# Altium schematic symbol library Active.SchLib: 42 symbols
Pins are listed as number, name and electrical type; pins without a type are passive.

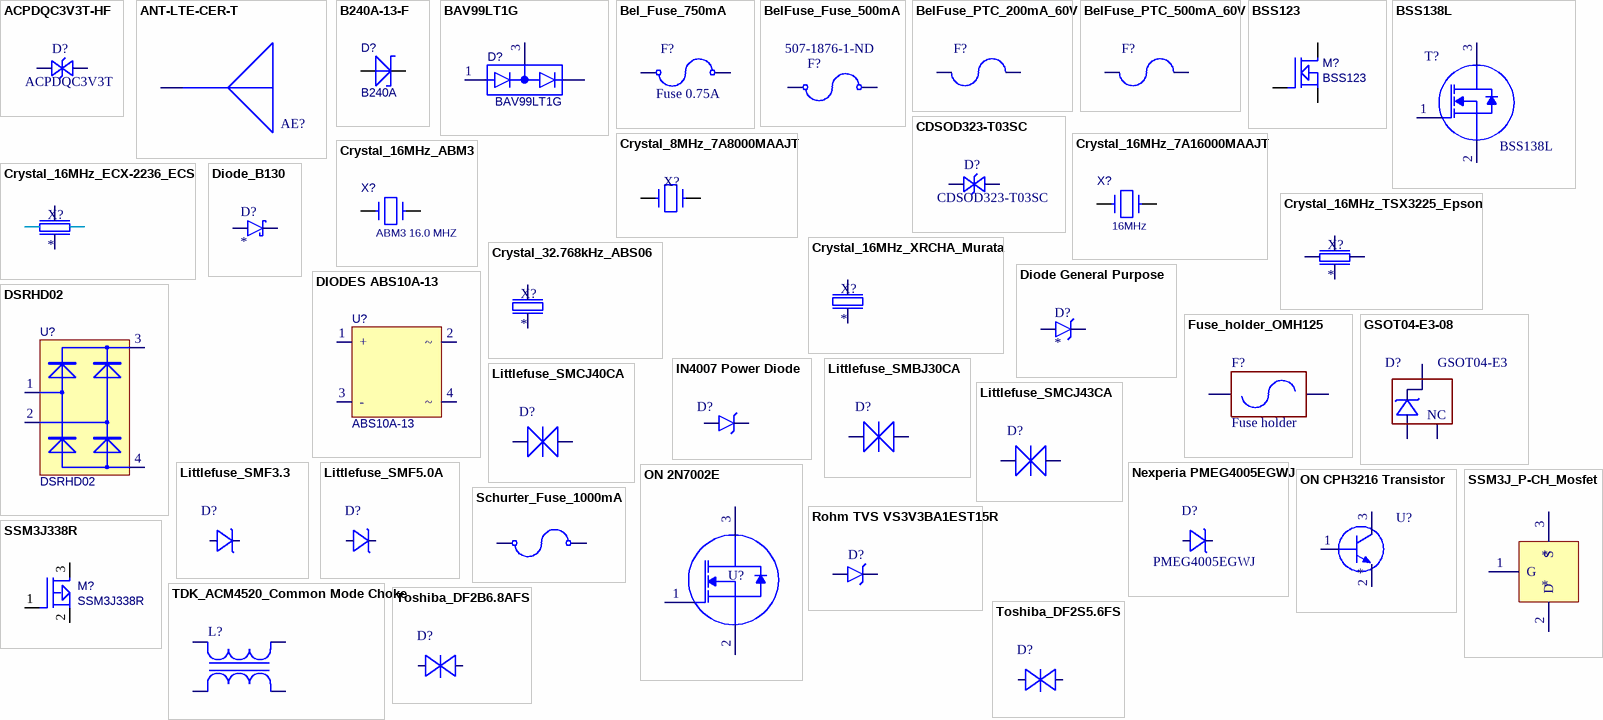
[diagram p0: symbols ACPDQC3V3T-HF to Toshiba_DF2S5.6FS]

## ACPDQC3V3T-HF
designator D?, comment ACPDQC3V3T
DIODE TVS 3.3VWM 9.8VC 16A SOD-923F 0402C; Manufacturer: Comchip; Manufacturer Part Number: ACPDQC3V3T-HF; TZOA PN: 225-00004; Type: Zener; Bidirectional Channels: 1; Voltage - Reverse Standoff (Typ): 3.3V (Max); Voltage - Breakdown (Min): 3.6V; Voltage - Clamping (Max) @ Ipp: 9.8V; Current - Peak Pulse (10/1000µs): 16A (8/20µs); Power Line Protection: No; Capacitance @ Frequency: 20pF @ 1MHz; Supplier 1: Digi-Key; Stock 1: 37772; Pricing 1: 1=0.43, 10=0.311, 25=0.2424, 100=0.1834, 250=0.1298, 500=0.1038, 1000=0.0796, 2500=0.0692 (USD); Category: Circuit Protection; Family: TVS - Diodes; Series: Automotive, AEC-Q101; Packaging: Cut Tape (CT); Unidirectional Channels: -; Power - Peak Pulse: -; Applications: Automotive; Operating Temperature: -; Mounting Type: Surface Mount; Package / Case: 0402 (1005 Metric); Supplier Device Package: 0402C/SOD-923F; Supplier Part Number 1: 641-1635-1-ND
footprint TVS Diode 0402 bidirectional
pins: 1, 2

## ANT-LTE-CER-T
designator AE?  (value not drawn)
NB-IOT / CATM1 Chip Antenna; Manufacturer: Linx; Manufacturer Part Number: ANT-LTE-CER-T; Supplier 1: Digi-Key; Stock 1: 8711; Pricing 1: 1=2.79 (USD); Supplier Part Number 1: ANT-LTE-CER-TDKR-ND
footprint ANT-LTE-CER-T
pins: 1

## B240A-13-F
designator D?, comment B240A
Diode, Schottky, 2A, 40V, SMA; Manufacturer: Diodes; Manufacturer Part Number: B240A-13-F; TZOA PN: 225-00001; Vf - Forward Voltage: 0.5 V; Ifsm - Forward Surge Current: 50 A; Configuration: Single; Ir - Reverse Current: 500 uA; Brand: Diodes Incorporated; Type: Schottky Barrier Rectifier; Unit Weight: 0.002258 oz; Supplier 1: Digi-Key; Stock 1: 299823; Pricing 1: 1=0.5, 10=0.38, 100=0.2368, 500=0.162, 1000=0.1246 (USD); Product Category: Schottky Diodes & Rectifiers; RoHS: True; Product: Schottky Diodes; Mounting Style: SMD/SMT; Package / Case: SMA; If - Forward Current: 2 A; Vrrm - Repetitive Reverse Voltage: 40 V; Technology: Si; Maximum Operating Temperature: + 150 C; Minimum Operating Temperature: - 65 C; Series: B240; Packaging: Reel; Height: 2.1 mm; Length: 4.6 mm; Operating Temperature Range: - 65 C to + 150 C; Factory Pack Quantity: 5000; Termination Style: SMD/SMT; Width: 2.92 mm; ComponentLink1URL: https://datasheet.ciiva.com/913/ds13004-913200.pdf; ComponentLink1Description: https://datasheet.ciiva.com/913/ds13004-913200.pdf; ComponentLink2URL: https://datasheet.ciiva.com/8300/ds13004-8300534.pdf; ComponentLink2Description: https://datasheet.ciiva.com/8300/ds13004-8300534.pdf; ComponentLink3URL: https://datasheet.ciiva.com/34302/1538785-34302358.pdf; ComponentLink3Description: https://datasheet.ciiva.com/34302/1538785-34302358.pdf; Supplier Part Number 1: B240A-FDICT-ND
footprint SMA (Surface Mount Plastic Rectifier)
pins: 1, 2

## BAV99LT1G
designator D?
DIODE ARRAY Pair Series 215 mA SOT23-3; Manufacturer: ON Semiconductor; TZOA PN: 225-00008; Diode Type: Small Signal; Forward Current If(AV): 215mA; Repetitive Reverse Voltage Vrrm Max: 70V; Forward Voltage VF Max: 1V; Reverse Recovery Time trr Max: 6ns; Forward Surge Current Ifsm Max: 500mA; Diode Case Style: SOT-23; No. of Pins: 3; SVHC: No SVHC (19-Dec-2012); Application Code: High Speed; Current If @ Vf: 50mA; Diode Configuration: Dual; External Depth: 2.5mm; External Length / Height: 1.12mm; External Width: 3.05mm; Junction Temperature Tj Max: 150°C; SMD Marking: A7; Supplier 1: Digi-Key; Manufacturer Part Number: BAV99LT1G; Stock 1: 554818; Pricing 1: 1=0.13, 10=0.118, 100=0.064, 500=0.0394, 1000=0.0269 (USD); Current Ifsm: 500mA; Forward Current If Max: 50mA; Forward Voltage: 1V; Package / Case: SOT-23; ComponentLink1URL: https://datasheet.ciiva.com/1242/1708240-1242822.pdf; ComponentLink1Description: https://datasheet.ciiva.com/1242/1708240-1242822.pdf; ComponentLink2URL: https://datasheet.ciiva.com/41646/bav99lt1-d-41646237.pdf; ComponentLink2Description: https://datasheet.ciiva.com/41646/bav99lt1-d-41646237.pdf; ComponentLink3URL: https://datasheet.ciiva.com/8299/bav99lt1-d-8299661.pdf; ComponentLink3Description: https://datasheet.ciiva.com/8299/bav99lt1-d-8299661.pdf; ComponentLink4URL: https://datasheet.ciiva.com/4435/bav99lt1-d-103509-4435549.pdf; ComponentLink4Description: https://datasheet.ciiva.com/4435/bav99lt1-d-103509-4435549.pdf; ComponentLink5URL: https://datasheet.ciiva.com/1180/bav99lt1-d-1180732.pdf; ComponentLink5Description: https://datasheet.ciiva.com/1180/bav99lt1-d-1180732.pdf; ComponentLink6URL: https://datasheet.ciiva.com/22663/bav99lt1-d-22663707.pdf; ComponentLink6Description: https://datasheet.ciiva.com/22663/bav99lt1-d-22663707.pdf; ComponentLink7URL: https://datasheet.ciiva.com/1180/bav99lt1-d-1180731.pdf; ComponentLink7Description: https://datasheet.ciiva.com/1180/bav99lt1-d-1180731.pdf; ComponentLink8URL: https://datasheet.ciiva.com/5794/bav99lt1-d-5794014.pdf; ComponentLink8Description: https://datasheet.ciiva.com/5794/bav99lt1-d-5794014.pdf; ComponentLink9URL: https://datasheet.ciiva.com/16475/bav99lt1-d-16475674.pdf; ComponentLink9Description: https://datasheet.ciiva.com/16475/bav99lt1-d-16475674.pdf; ComponentLink10URL: https://datasheet.ciiva.com/1180/bav99lt1-d-1180729.pdf; ComponentLink10Description: https://datasheet.ciiva.com/1180/bav99lt1-d-1180729.pdf; ComponentLink11URL: https://datasheet.ciiva.com/905/bav99lt1-d-905785.pdf; ComponentLink11Description: https://datasheet.ciiva.com/905/bav99lt1-d-905785.pdf; ComponentLink12URL: https://datasheet.ciiva.com/8300/bav99lt1-d-8300008.pdf; ComponentLink12Description: https://datasheet.ciiva.com/8300/bav99lt1-d-8300008.pdf; ComponentLink13URL: https://datasheet.ciiva.com/905/bav99lt1-d-905784.pdf; ComponentLink13Description: https://datasheet.ciiva.com/905/bav99lt1-d-905784.pdf; ComponentLink14URL: https://datasheet.ciiva.com/22663/1708240-22663671.pdf; ComponentLink14Description: https://datasheet.ciiva.com/22663/1708240-22663671.pdf; ComponentLink15URL: https://datasheet.ciiva.com/905/bav99lt1-d-905783.pdf; ComponentLink15Description: https://datasheet.ciiva.com/905/bav99lt1-d-905783.pdf; ComponentLink16URL: https://datasheet.ciiva.com/1180/bav99lt1-d-1180730.pdf; ComponentLink16Description: https://datasheet.ciiva.com/1180/bav99lt1-d-1180730.pdf; ComponentLink17URL: https://datasheet.ciiva.com/5794/bav99lt1-d-5794015.pdf; ComponentLink17Description: https://datasheet.ciiva.com/5794/bav99lt1-d-5794015.pdf; Supplier Part Number 1: BAV99LT1GOSCT-ND
footprint SOT-23-3 (SOT-23.ogl)
pins: 1 A, 2 K, 3 KA

## Bel_Fuse_750mA
designator F?, comment Fuse 0.75A
One Time Fuse, 750 mA; Manufacturer: Bel Stewart; Manufacturer Part Number: C1S750; Fuse Type: Board Mount (Cartridge Style Excluded); Current Rating: 750mA; Voltage Rating - AC: 63V; Response Time: Slow; Breaking Capacity @ Rated Voltage: 50A; Melting I²t: 0.01; Approvals: CE, cURus; DC Cold Resistance: 0.35 Ohm; TZOA PN: 203-00001; Supplier 1: Digikey; Stock 1: 62220; Pricing 1: 1=0.33, 5=0.322, 10=0.308, 50=0.2746, 100=0.2557, 250=0.2273, 500=0.1894, 1000=0.18 (USD); Category: Circuit Protection; Family: Fuses; Series: C1S; Packaging: Tape &amp; Reel (TR); Voltage Rating - DC: 63V; Package / Case: 1206 (3216 Metric); Mounting Type: Surface Mount; Operating Temperature: -55°C ~ 125°C; Color: -; Size / Dimension: 0.126" L x 0.062" W x 0.023" H (3.20mm x 1.58mm x 0.58mm); ComponentLink1URL: https://datasheet.ciiva.com/300/c1s-300674.pdf; ComponentLink1Description: https://datasheet.ciiva.com/300/c1s-300674.pdf; ComponentLink2URL: https://datasheet.ciiva.com/300/c1s-300675.pdf; ComponentLink2Description: https://datasheet.ciiva.com/300/c1s-300675.pdf; ComponentLink3URL: https://datasheet.ciiva.com/300/c1s-300676.pdf; ComponentLink3Description: https://datasheet.ciiva.com/300/c1s-300676.pdf; ComponentLink4URL: https://datasheet.ciiva.com/8264/c1s-8264028.pdf; ComponentLink4Description: https://datasheet.ciiva.com/8264/c1s-8264028.pdf; Supplier Part Number 1: 507-1185-6-ND
footprint 1206
pins: 1, 2

## BelFuse_Fuse_500mA
designator F?  Supplier Part Number 1: 507-1876-1-ND  (hidden comment: *)
One Time Fuse 1812; Manufacturer: Bel Stewart / TRP Connector; Manufacturer Part Number: C1F500; Fuse Type: Board Mount (Cartridge Style Excluded); Current Rating: 500mA; Voltage Rating - AC: 125V; Voltage Rating - DC: 63V; Response Time: Fast; Breaking Capacity @ Rated Voltage: 100A AC, 50A DC; Melting I²t: 0.0015; Approvals: CE, cURus; DC Cold Resistance: 0.81 Ohm; Supplier 1: Digikey; Stock 1: 15156; Pricing 1: 1=0.29, 5=0.278, 10=0.265, 50=0.2366, 100=0.2203, 250=0.1958, 500=0.1632, 1000=0.155 (USD); Category: Circuit Protection; Family: Fuses; Series: C1F; Packaging: Tape &amp; Reel (TR); Package / Case: 1206 (3216 Metric); Mounting Type: Surface Mount; Operating Temperature: -55°C ~ 125°C; Color: -; Size / Dimension: 0.126" L x 0.062" W (3.20mm x 1.58mm); ComponentLink1URL: http://belfuse.com/pdfs/C1F.pdf; ComponentLink1Description: http://belfuse.com/pdfs/C1F.pdf
footprint C3216[1206]
pins: 1, 2

## BelFuse_PTC_200mA_60V
designator F?  (value not drawn)
PTC Fuse 1812; Manufacturer: Bel Stewart; Manufacturer Part Number: 0ZCG0020AF2C; Featured Product: SMT Low Profile PTC Resettable Fuses Power Solutions and Protection; EDA / CAD Models: Download from Accelerated Designs; Voltage - Max: 60V; Current - Max: 40A; Current - Hold (Ih) (Max): 200mA; Current - Trip (It): 400mA; R Min/Max: 0.800 ~ 5.000 Ohm; Time to Trip: 0.02s; Online Catalog: 0ZC Series; Other Names: 507-1757-2; Supplier 1: Digikey; Stock 1: 47213; Pricing 1: 1=0.13, 5=0.122, 10=0.117, 50=0.1044, 100=0.0972, 250=0.0864, 500=0.072, 1000=0.0684 (USD); RoHS Information: RoHS Compliance; Standard Package: 2,000; Category: Circuit Protection; Family: PTC Resettable Fuses; Series: 0ZCG; Packaging: Tape & Reel (TR); Package / Case: 1812 (4532 Metric), Concave; ComponentLink1URL: https://datasheet.ciiva.com/18550/0zcg-18550780.pdf; ComponentLink1Description: https://datasheet.ciiva.com/18550/0zcg-18550780.pdf; ComponentLink2URL: https://datasheet.ciiva.com/18550/0zcg-18550781.pdf; ComponentLink2Description: https://datasheet.ciiva.com/18550/0zcg-18550781.pdf; ComponentLink3URL: https://datasheet.ciiva.com/18550/0zcg-18550782.pdf; ComponentLink3Description: https://datasheet.ciiva.com/18550/0zcg-18550782.pdf; Supplier Part Number 1: 507-1757-1-ND
footprint 1812
pins: 1, 2

## BelFuse_PTC_500mA_60V
designator F?  (value not drawn)
PTC Fuse 1812; Manufacturer: Littelfuse; Manufacturer Part Number: 2920L050DR; Hold Current [Ih]: 0.5 A; Working Voltage-Max: 60 V; Trip Current: 1 A; Supplier 1: Digikey; Stock 1: 18652; Pricing 1: 1=0.69, 5=0.668, 10=0.648, 50=0.5452, 100=0.4525, 250=0.4114, 500=0.3497 (USD); Operating Temp Range: -40 to +85 °C; Size: 2920; ComponentLink1URL: https://datasheet.ciiva.com/325/littelfuse-ptc-2920l-325937.pdf; ComponentLink1Description: https://datasheet.ciiva.com/325/littelfuse-ptc-2920l-325937.pdf; ComponentLink2URL: https://datasheet.ciiva.com/325/littelfuse-ptc-2920l-325938.pdf; ComponentLink2Description: https://datasheet.ciiva.com/325/littelfuse-ptc-2920l-325938.pdf; ComponentLink3URL: https://datasheet.ciiva.com/325/littelfuse-ptc-2920l-325939.pdf; ComponentLink3Description: https://datasheet.ciiva.com/325/littelfuse-ptc-2920l-325939.pdf; ComponentLink4URL: https://datasheet.ciiva.com/14119/2920l-eng-datasheet-14119782.pdf; ComponentLink4Description: https://datasheet.ciiva.com/14119/2920l-eng-datasheet-14119782.pdf; ComponentLink5URL: https://datasheet.ciiva.com/16305/littelfuse-2920l-16305110.pdf; ComponentLink5Description: https://datasheet.ciiva.com/16305/littelfuse-2920l-16305110.pdf; ComponentLink6URL: https://datasheet.ciiva.com/1273/578244-1273816.pdf; ComponentLink6Description: https://datasheet.ciiva.com/1273/578244-1273816.pdf; ComponentLink7URL: https://datasheet.ciiva.com/30470/0900766b8128f916-30470047.pdf; ComponentLink7Description: https://datasheet.ciiva.com/30470/0900766b8128f916-30470047.pdf; Supplier Part Number 1: F2866DKR-ND
footprint 1812
pins: 1, 2

## BSS123
designator M?
Xstr,FET,N-Chan,.17A100V,BSS123,SOT-23; Manufacturer: On Semi, NXP Semiconductors; Manufacturer Part Number: BSS123LT1G; P/N: 330-309-19; iPS: 922-000xx-R1; Current: 150mA (Ta); Details: 40pF @ 25V; Power: 250mW; Resistance: 6 Ohm @ 120mA, 10V; Voltage: 100V; Fast Supplier: Digi-Key; Supplier Part Number1: 568-4873-1-ND
footprint SOT-23F (SOT-23.ogl)
pins: 1, 2, 3

## BSS138L
designator T?
MOSFET N-ch 50V 0.2A SOT-23; Manufacturer: Fairchild Semiconductor; TZOA PN: 228-00002; Number of Channels: 1 Channel; Transistor Polarity: N-Channel; Id - Continuous Drain Current: 200 mA; Rds On - Drain-Source Resistance: 3.5 Ohms; Vgs - Gate-Source Voltage: 20 V; Vgs th - Gate-Source Threshold Voltage: 1.25 V; Qg - Gate Charge: 0.549 nC; Channel Mode: Enhancement; Configuration: Single; Fall Time: 5.1 ns; Forward Transconductance - Min: 120 mS; Pd - Power Dissipation: 350 mW; Rise Time: 1.8 ns; Transistor Type: 1 N-Channel; Typical Turn-Off Delay Time: 5.3 ns; Typical Turn-On Delay Time: 2.2 ns; Unit Weight: 0.001058 oz; Supplier 1: Digi-Key; Manufacturer Part Number: BSS138L; Stock 1: 35795; Pricing 1: 1=0.24, 10=0.196, 100=0.104, 500=0.0684, 1000=0.0465 (USD); Product Category: MOSFET; RoHS: True; Technology: Si; Mounting Style: SMD/SMT; Package / Case: SOT-23-3; Vds - Drain-Source Breakdown Voltage: 50 V; Minimum Operating Temperature: - 55 C; Maximum Operating Temperature: + 150 C; Packaging: Reel; Brand: Fairchild Semiconductor; Series: BSS138L; Factory Pack Quantity: 3000; ComponentLink1URL: http://www.mouser.com/ds/2/149/BSS138L-469246.pdf; ComponentLink1Description: http://www.mouser.com/ds/2/149/BSS138L-469246.pdf; ComponentLink2URL: http://components.arrow.com/part/dataview/75331920S1101135N9186; ComponentLink2Description: http://components.arrow.com/part/dataview/75331920S1101135N9186; ComponentLink3URL: http://www.farnell.com/datasheets/2163767.pdf; ComponentLink3Description: http://www.farnell.com/datasheets/2163767.pdf; ComponentLink4URL: https://www.fairchildsemi.com/datasheets/BS/BSS138L.pdf; ComponentLink4Description: https://www.fairchildsemi.com/datasheets/BS/BSS138L.pdf; Supplier Part Number 1: BSS138LCT-ND
footprint SOT-23-3
pins: 1, 2, 3

## CDSOD323-T03SC
designator D?
DIODE TVS 3.3VWM 10.9VC 43A SMD; Manufacturer: Bourns; TZOA PN: 225-00006; Minimum Quantity: 3.3V; Voltage - Breakdown: 4V; Power (Watts): 400W; Polarization: Bidirectional; Type: Zener; Bidirectional Channels: 1; Voltage - Clamping (Max) @ Ipp: 8V; Current - Peak Pulse (10/1000µs): 43A (8/20µs); Power Line Protection: No; Capacitance @ Frequency: 200pF @ 1MHz; Dynamic Catalog: CDSOD323-Txx Series; Other Names: CDSOD323-T03SCDKR; Supplier 1: Digi-Key; Manufacturer Part Number: CDSOD323-T03SC; Stock 1: 14155; Pricing 1: 1=0.65, 10=0.568, 25=0.5028, 100=0.438, 250=0.3812, 500=0.3245, 1000=0.2596 (USD); Quantity Available: Digi-Reel®Alternate Packaging; Standard Package: 1; Category: Circuit Protection; Family: TVS - Diodes; Packaging: Cut Tape (CT); Voltage - Reverse Standoff (Typ): 3.3V; Voltage - Breakdown (Min): 4V; Power - Peak Pulse: 400W; Applications: General Purpose; Operating Temperature: -55°C ~ 150°C; Mounting Type: Surface Mount; Package / Case: SC-76, SOD-323; Supplier Device Package: SOD-323; ComponentLink1URL: https://datasheet.ciiva.com/22685/1671000-22685542.pdf; ComponentLink1Description: https://datasheet.ciiva.com/22685/1671000-22685542.pdf; ComponentLink2URL: https://datasheet.ciiva.com/15063/cdsod323-txxsc-15063768.pdf; ComponentLink2Description: https://datasheet.ciiva.com/15063/cdsod323-txxsc-15063768.pdf; ComponentLink3URL: https://datasheet.ciiva.com/15063/cdsod323-txxsc-15063769.pdf; ComponentLink3Description: https://datasheet.ciiva.com/15063/cdsod323-txxsc-15063769.pdf; ComponentLink4URL: https://datasheet.ciiva.com/25955/cdsod323-txxsc-25955705.pdf; ComponentLink4Description: https://datasheet.ciiva.com/25955/cdsod323-txxsc-25955705.pdf; ComponentLink5URL: https://datasheet.ciiva.com/15063/cdsod323-txxsc-15063770.pdf; ComponentLink5Description: https://datasheet.ciiva.com/15063/cdsod323-txxsc-15063770.pdf; Supplier Part Number 1: CDSOD323-T03SCCT-ND
footprint SOD-323
pins: 1, 2

## Crystal_8MHz_7A8000MAAJT
designator X?  (value not drawn)
Xtal,SMD,8.0MHz,TXC,5x3.2mm,18pF; Manufacturer: TXC CORPORATION; Manufacturer Part Number: 7A-8.000MAAJ-T; Frequency: 8MHz; Frequency Stability: ±30ppm; ESR (Equivalent Series Resistance): 80 Ohm; Operating Mode: Fundamental; Supplier 1: Digi-Key; RoHS: RoHS Compliant; Category: Crystals and Oscillators; Stock 1: 0; Pricing 1: 1=1.08, 10=0.951, 50=0.888, 100=0.7848, 500=0.74354 (CAD); Packaging: Digi-Reel®; Frequency Tolerance: ±30ppm; Load Capacitance: 18pF; Operating Temperature: -20°C ~ 70°C; Mounting Type: Surface Mount; Package / Case: 2-SMD; Size / Dimension: 0.197" L x 0.126" W (5.00mm x 3.20mm); Height: 0.053" (1.35mm); ComponentLink1URL: http://www.txccrystal.com/images/pdf/7a.pdf; ComponentLink1Description: http://www.txccrystal.com/images/pdf/7a.pdf; Supplier Part Number 1: 887-1448-6-ND
footprint TXC7A (30ppm Glass Crystal)
pins: 1, 2

## Crystal_16MHz_7A16000MAAJT
designator X?, comment 16MHz
Crystal, SMD,16MHz, 18pF, 5x3.2mm; Manufacturer: TXC CORPORATION; Manufacturer Part Number: 7A-16.000MAAJ-T; TZOA PN: 269-00001; Frequency Stability: ±30ppm; Catalog Drawings: 7A Series Top 7A Series Bottom 7A Series Side 1 7A Series Side 2; EDA / CAD Models: Download from Accelerated Designs; ESR (Equivalent Series Resistance): 50 Ohm; Operating Mode: Fundamental; Online Catalog: 7A Series; Other Names: 7A16000MAAJT / 887-1086-2; Supplier 1: Digi-Key; Supplier Part Number 1: 887-1086-1-ND; Load Capacitance: 18pF; Package: 2-SMD; Category: Crystals and Oscillators; Dimension: 5.00mm x 3.20mm; Stock 1: 55265; Pricing 1: 1=0.72, 10=0.633, 50=0.5912, 100=0.5225, 500=0.495 (USD); Standard Package: 1,000; Family: Crystals; Series: 7A; Packaging: Cut Tape (CT); Type: MHz Crystal; Frequency: 16MHz; Frequency Tolerance: ±30ppm; Operating Temperature: -20°C ~ 70°C; Mounting Type: Surface Mount; Package / Case: 2-SMD; Size / Dimension: 0.197" L x 0.126" W (5.00mm x 3.20mm); Height: 0.053" (1.35mm); ComponentLink1URL: https://datasheet.ciiva.com/854/7a-854754.pdf; ComponentLink1Description: https://datasheet.ciiva.com/854/7a-854754.pdf; ComponentLink2URL: https://datasheet.ciiva.com/854/7a-854755.pdf; ComponentLink2Description: https://datasheet.ciiva.com/854/7a-854755.pdf; ComponentLink3URL: https://datasheet.ciiva.com/854/7a-854756.pdf; ComponentLink3Description: https://datasheet.ciiva.com/854/7a-854756.pdf; ComponentLink4URL: https://datasheet.ciiva.com/1356/1041607-1356391.pdf; ComponentLink4Description: https://datasheet.ciiva.com/1356/1041607-1356391.pdf; ComponentLink5URL: https://datasheet.ciiva.com/26833/getdatasheetpartid-742510-26833146.pdf; ComponentLink5Description: https://datasheet.ciiva.com/26833/getdatasheetpartid-742510-26833146.pdf
footprint CRYSTAL_7A16000MAAJT
pins: 1, 2

## Crystal_16MHz_ABM3
designator X?, comment ABM3 16.0 MHZ
CRYSTAL 16.0MHZ ±20ppm 18pF 40 Ohm -40°C ~ 85°C XTAL Non Polarized; Manufacturer: Abracon; Manufacturer Part Number: ABM3-16.000MHZ-D2Y-T; TZOA PN: 269-00003; Frequency: 16 MHz; Frequency Stability: 30 PPM; Case Height: 1.3 mm; Case Length: 5 mm; Case Width: 3.2 mm; ESR: 40 Ohms; Supplier 1: Digi-Key; Stock 1: 19902; Pricing 1: 1=0.69, 10=0.578, 50=0.5198, 100=0.462, 500=0.4389 (USD); Product Category: Crystals; RoHS: Details; Brand: ABRACON; Tolerance: 20 PPM; Load Capacitance: 18 pF; Termination Style: SMD/SMT; Package / Case: 5 mm x 3.2 mm; Operating Temperature Range: - 40 C to + 85 C; Dimensions: 3.2 mm W x 5 mm L x 1.3 mm H; Packaging: Cut Tape (CT); Mounting Style: SMD/SMT; Series: ABM3; Factory Pack Quantity: 1000; Type: Miniature Ceramic Crystal; ComponentLink1URL: https://datasheet.ciiva.com/855/abm3-855936.pdf; ComponentLink1Description: https://datasheet.ciiva.com/855/abm3-855936.pdf; ComponentLink2URL: https://datasheet.ciiva.com/4945/abm3-47699-4945397.pdf; ComponentLink2Description: https://datasheet.ciiva.com/4945/abm3-47699-4945397.pdf; ComponentLink3URL: https://datasheet.ciiva.com/7998/abm3-7998565.pdf; ComponentLink3Description: https://datasheet.ciiva.com/7998/abm3-7998565.pdf; ComponentLink4URL: https://datasheet.ciiva.com/16223/abm3-16223365.pdf; ComponentLink4Description: https://datasheet.ciiva.com/16223/abm3-16223365.pdf; ComponentLink5URL: https://datasheet.ciiva.com/855/abm3-855934.pdf; ComponentLink5Description: https://datasheet.ciiva.com/855/abm3-855934.pdf; ComponentLink6URL: https://datasheet.ciiva.com/28508/1754353-28508494.pdf; ComponentLink6Description: https://datasheet.ciiva.com/28508/1754353-28508494.pdf; ComponentLink7URL: https://datasheet.ciiva.com/855/abm3-855935.pdf; ComponentLink7Description: https://datasheet.ciiva.com/855/abm3-855935.pdf; Supplier Part Number 1: 535-10638-1-ND
footprint CRYSTAL_5x3.2 (Crystal, 2 pins, 5 x 3.2 x 1.35 mm)
pins: 1, 2

## Crystal_16MHz_ECX-2236_ECS
designator X?
Manufacturer: ECS Inc.; Manufacturer Part Number: ECS-160-10-36-JGN-TR; Frequency: 16MHz; Frequency Stability: ±30ppm; Frequency Tolerance: ±20ppm; Load Capacitance: 10pF; ESR (Equivalent Series Resistance): 80 Ohm; Operating Mode: Fundamental; Supplier 1: Digi-Key; Supplier Part Number 1: XC2110CT-ND; RoHS: RoHS Compliant; Category: Crystals and Oscillators; Stock: 637; Pricing: 1=1.05, 10=0.881, 50=0.7914, 100=0.7044, 500=0.67086 (CAD); Packaging: Cut Tape (CT); Part Status: Active; Type: MHz Crystal; Operating Temperature: -40°C ~ 85°C; Ratings: -; Mounting Type: Surface Mount; Package / Case: 4-SMD, No Lead (DFN, LCC); Size / Dimension: 0.098" L x 0.079" W (2.50mm x 2.00mm); Height: 0.026" (0.65mm); ComponentLink1URL: http://www.ecsxtal.com/store/pdf/ECX-2236.pdf; ComponentLink1Description: http://www.ecsxtal.com/store/pdf/ECX-2236.pdf
footprint ECX2236_CRYSTAL
pins: 1, 2, 3, 4

## Crystal_16MHz_TSX3225_Epson
designator X?
Supplier 1: Digi-Key; Supplier Part Number 1: SER4070DKR-ND; Supplier 2: Arrow
footprint TSX3225_CRYSTAL
pins: 1, 2, 3, 4

## Crystal_16MHz_XRCHA_Murata
designator X?
Supplier 1: Digi-Key; Supplier Part Number 1: 490-9650-1-ND; Supplier 2: Arrow
pins: 1, 2

## Crystal_32.768kHz_ABS06
designator X?
CRYSTAL 32.768KHZ ±10ppm 9pF 90K Ohm -40°C ~ 85°C DFN Crystal 2-Pin, Polarized; Manufacturer: Abracon LLC; Manufacturer Part Number: ABS06-32.768KHZ-9-1-T; ESR (Equivalent Series Resistance): 90 kOhm; Operating Mode: Fundamental; TZOA PN: 269-00002; Supplier 1: Digi-Key; Supplier Part Number 1: 535-10247-1-ND; RoHS: RoHS Compliant; Category: Crystals and Oscillators; Stock: 20650; Pricing: 1=1.8, 10=1.734, 50=1.6954, 100=1.4499, 500=1.4115, 1000=1.18904 (CAD); Packaging: Cut Tape (CT); Part Status: Active; Type: kHz Crystal (Tuning Fork); Frequency: 32.768kHz; Frequency Stability: -; Frequency Tolerance: ±10ppm; Load Capacitance: 9pF; Operating Temperature: -40°C ~ 85°C; Ratings: -; Mounting Type: Surface Mount; Package / Case: 2-SMD; Size / Dimension: 0.079" L x 0.047" W (2.00mm x 1.20mm); Height: 0.024" (0.60mm); ComponentLink1URL: http://www.abracon.com/Resonators/ABS06.pdf; ComponentLink1Description: http://www.abracon.com/Resonators/ABS06.pdf
footprint ABS06_CRYSTAL
pins: 1, 2

## Diode General Purpose
designator D?
Manufacturer: Diodes; Manufacturer Part Number: S1B-13-F; Average Rectified Current-Max: 1 A; Forward Voltage: 1.1 V; Reverse Voltage-Max [Vrrm]: 100 V; Peak Current-Max: 30 A; Reverse Current-Max: 5 µA; Supplier 1: Digi-Key; Stock 1: 378387; Pricing 1: 1=0.27, 10=0.219, 100=0.1162, 500=0.0765, 1000=0.052 (USD); ComponentLink1URL: https://datasheet.ciiva.com/911/ds16003-911864.pdf; ComponentLink1Description: https://datasheet.ciiva.com/911/ds16003-911864.pdf; ComponentLink2URL: https://datasheet.ciiva.com/911/ds16003-911865.pdf; ComponentLink2Description: https://datasheet.ciiva.com/911/ds16003-911865.pdf; ComponentLink3URL: https://datasheet.ciiva.com/911/ds16003-911866.pdf; ComponentLink3Description: https://datasheet.ciiva.com/911/ds16003-911866.pdf; Supplier Part Number 1: S1B-FDICT-ND
footprint SMA (Surface Mount Plastic Rectifier)
pins: 1, 2

## Diode_B130
designator D?
Supplier 1: Digi-Key; Supplier Part Number 1: B130-FDICT-ND; Supplier 2: Arrow
footprint B120B (SMA Schottky Diode)
pins: 1, 2

## DIODES ABS10A-13
designator U?, comment ABS10A-13
Diode Bridge, SMD, 1A, 200V, 4-SOPA; Manufacturer: Diodes; Categories: Discrete Semiconductor Products; Diode Type: Single Phase; Voltage - Peak Reverse (Max): 1kV; Voltage - Forward (Vf) (Max) @ If: 1.1V @ 1A; Current - Reverse Leakage @ Vr: 5µA @ 1000V; Supplier 1: Digi-Key; Manufacturer Part Number: ABS10A-13; Stock 1: 3607; Pricing 1: 1=0.4, 10=0.298, 100=0.1859, 500=0.1272, 1000=0.0979 (USD); Series: -; Packaging: Digi-Reel®; Part Status: Active; Technology: Standard; Current - Average Rectified (Io): 1A; Operating Temperature: -55°C ~ 150°C (TJ); Mounting Type: Surface Mount; Package / Case: 4-SMD, Gull Wing; Supplier Device Package: 4-SOPA; Supplier Part Number 1: ABS10A-13DICT-ND
footprint SOPA-4 (Diodes Incorporated)
pins: 1 + (power), 2 ~ (power), 3 - (power), 4 ~ (power)

## DSRHD02
designator U?
Diode Bridge, SMD, 1A, 200V, 4-T MiniDip; Manufacturer: Diodes; Manufacturer Part Number: DSRHD02-13; TZOA PN: 225-00003; Rad Hard: No; Configuration: Single; Bridge Type: Single Phase; Peak Reverse Current: 10 uA; Peak Forward Voltage: 1.1@1A V; Supplier 1: Digi-Key; Stock 1: 11561; Pricing 1: 1=0.5, 10=0.425, 100=0.3172, 500=0.2493, 1000=0.1926 (USD); Packaging: Cut Tape (CT); Package: 4T-MiniDIP; Peak Reverse Repetitive Voltage: 200 V; Peak Average Forward Current: 1 A; Operating Temperature: -55 to 150 °C; Mounting: Surface Mount; Category: Bridge Rectifier; ComponentLink1URL: https://datasheet.ciiva.com/30480/0900766b81268ba2-30480419.pdf; ComponentLink1Description: https://datasheet.ciiva.com/30480/0900766b81268ba2-30480419.pdf; ComponentLink2URL: https://datasheet.ciiva.com/29883/dsrhd0x-29883913.pdf; ComponentLink2Description: https://datasheet.ciiva.com/29883/dsrhd0x-29883913.pdf; ComponentLink3URL: https://datasheet.ciiva.com/15010/dsrhd0x-15010187.pdf; ComponentLink3Description: https://datasheet.ciiva.com/15010/dsrhd0x-15010187.pdf; ComponentLink4URL: https://datasheet.ciiva.com/15010/dsrhd0x-15010188.pdf; ComponentLink4Description: https://datasheet.ciiva.com/15010/dsrhd0x-15010188.pdf; ComponentLink5URL: https://datasheet.ciiva.com/15010/dsrhd0x-15010189.pdf; ComponentLink5Description: https://datasheet.ciiva.com/15010/dsrhd0x-15010189.pdf; Supplier Part Number 1: DSRHD02-13DICT-ND
footprint DSRHD02 (Bridge Rectifier)
pins: 1 (power), 2 (power), 3 (power), 4 (power)

## Fuse_holder_OMH125
designator F?, comment Fuse holder
Fuse holder OMH 125; Manufacturer: Schurter; Manufacturer Part Number: 0031.7701.11; For fuses: SMD 7.4 x 3.1; Rated voltage: 125 VAC; Nominal current: 5 A (UL/CSA); Supplier 1: Digikey; Stock 1: 5564; Pricing 1: 1=0.93, 10=0.871, 20=0.81, 50=0.729, 100=0.6885, 200=0.648, 500=0.6075, 1000=0.567, 5000=0.5387 (USD); Assembly type: SMD; Termination type: Soldering; ComponentLink1URL: https://datasheet.ciiva.com/1270/typ-omh-125-1270896.pdf; ComponentLink1Description: https://datasheet.ciiva.com/1270/typ-omh-125-1270896.pdf; ComponentLink2URL: https://datasheet.ciiva.com/1221/1925349-1221826.pdf; ComponentLink2Description: https://datasheet.ciiva.com/1221/1925349-1221826.pdf; ComponentLink3URL: https://datasheet.ciiva.com/7496/typ-omh-125-7496724.pdf; ComponentLink3Description: https://datasheet.ciiva.com/7496/typ-omh-125-7496724.pdf; ComponentLink4URL: https://datasheet.ciiva.com/16215/typ-omh-125-16215096.pdf; ComponentLink4Description: https://datasheet.ciiva.com/16215/typ-omh-125-16215096.pdf; ComponentLink5URL: https://datasheet.ciiva.com/3014/typ-omh-125-3014522.pdf; ComponentLink5Description: https://datasheet.ciiva.com/3014/typ-omh-125-3014522.pdf; ComponentLink6URL: https://datasheet.ciiva.com/30058/73typ-omh-125-30058618.pdf; ComponentLink6Description: https://datasheet.ciiva.com/30058/73typ-omh-125-30058618.pdf; ComponentLink7URL: https://datasheet.ciiva.com/4480/typ-omh-125-4480427.pdf; ComponentLink7Description: https://datasheet.ciiva.com/4480/typ-omh-125-4480427.pdf; ComponentLink8URL: https://datasheet.ciiva.com/14128/awomh125-data-e-14128364.pdf; ComponentLink8Description: https://datasheet.ciiva.com/14128/awomh125-data-e-14128364.pdf; ComponentLink9URL: https://datasheet.ciiva.com/17405/typ-omh-125-17405484.pdf; ComponentLink9Description: https://datasheet.ciiva.com/17405/typ-omh-125-17405484.pdf; Supplier Part Number 1: 486-1991-ND
footprint FUSE_HOLDER_OMH125 (Holder for OMF63, OMF125 and OMT125 fuses, SMD)
pins: 1, 2

## GSOT04-E3-08
designator D?, comment GSOT04-E3
DIODE TVS 4VWM 14.3VC 30A SOT-23; Manufacturer: Vishay; Manufacturer Part Number: GSOT04-E3-08; TZOA PN: 225-00005; Type: Zener; Unidirectional Channels: 1; Voltage - Reverse Standoff (Typ): 4V (Max); Voltage - Breakdown (Min): 5V; Voltage - Clamping (Max) @ Ipp: 14.3V; Current - Peak Pulse (10/1000µs): 30A (8/20µs); Power - Peak Pulse: 429W; Power Line Protection: No; Capacitance @ Frequency: 310pF @ 1MHz; Supplier 1: Digi-Key; Stock 1: 16869; Pricing 1: 1=0.39, 10=0.297, 25=0.2676, 100=0.1849, 250=0.1557, 500=0.1265, 1000=0.0973 (USD); Category: Circuit Protection; Family: TVS - Diodes; Series: -; Packaging: Cut Tape (CT); Bidirectional Channels: -; Applications: General Purpose; Operating Temperature: -40°C ~ 125°C (TJ); Mounting Type: Surface Mount; Package / Case: TO-236-3, SC-59, SOT-23-3; Supplier Device Package: SOT-23-3; ComponentLink1URL: https://datasheet.ciiva.com/29588/gsot03-29588869.pdf; ComponentLink1Description: https://datasheet.ciiva.com/29588/gsot03-29588869.pdf; ComponentLink2URL: https://datasheet.ciiva.com/29588/gsot03-29588870.pdf; ComponentLink2Description: https://datasheet.ciiva.com/29588/gsot03-29588870.pdf; ComponentLink3URL: https://datasheet.ciiva.com/29588/gsot03-29588871.pdf; ComponentLink3Description: https://datasheet.ciiva.com/29588/gsot03-29588871.pdf; Supplier Part Number 1: GSOT04-E3-08CT-ND
footprint SOD-123FL_TVS
footprint SOT-23
pins: 1, 2, 3
text: NC

## IN4007 Power Diode
designator D?, comment 1A  (value not drawn)
footprint DO-41 (Power Diode)
pins: 1 "Cathode", 2 "Anode"

## Littlefuse_SMBJ30CA
designator D?  (value not drawn)
Bidirectional TVS 30V 600W; Manufacturer: Littelfuse; Manufacturer Part Number: 1KSMBJ30CA; Type: Zener; Bidirectional Channels: 1; Voltage - Reverse Standoff (Typ): 25.6V; Voltage - Breakdown (Min): 28.5V; Voltage - Clamping (Max) @ Ipp: 41.4V; Current - Peak Pulse (10/1000µs): 24A; Power - Peak Pulse: 1000W (1kW); Power Line Protection: No; Supplier 1: Digikey; Stock 1: 0; Standard Package: 3,000; Category: Circuit Protection; Family: TVS - Diodes; Series: 1KSMBJ; Packaging: Tape & Reel (TR); Applications: Automotive, Telecom; Operating Temperature: -55°C ~ 150°C (TJ); Mounting Type: Surface Mount; Package / Case: DO-214AA, SMB; Supplier Device Package: DO-214AA (SMBJ); ComponentLink1URL: https://datasheet.ciiva.com/356/1ksmbjseries-356277.pdf; ComponentLink1Description: https://datasheet.ciiva.com/356/1ksmbjseries-356277.pdf; Supplier Part Number 1: 1KSMBJ30CA-ND
footprint SMB Diode
pins: 1, 2

## Littlefuse_SMCJ40CA
designator D?  (value not drawn)
Bidirectional TVS 40V 1500W; Manufacturer: Littelfuse; Manufacturer Part Number: SMCJ40CA; Breakdown Voltage-Max: 49.1 V; Breakdown Voltage-Min: 44.4 V; Clamping Voltage-Max: 64.5 V; Directional: Bi-Directional; TZOA PN: 225-00002; Supplier 1: Digikey; Stock 1: 5600; Pricing 1: 1=0.7, 10=0.612, 25=0.542, 100=0.472, 250=0.4108, 500=0.3497, 1000=0.2797 (USD); Power Dissipation: 1500 W; ComponentLink1URL: https://datasheet.ciiva.com/332/littelfuse-tvs-diode-smcj-datasheet-pdf-332336.pdf; ComponentLink1Description: https://datasheet.ciiva.com/332/littelfuse-tvs-diode-smcj-datasheet-pdf-332336.pdf; ComponentLink2URL: https://datasheet.ciiva.com/46381/607636-46381960.pdf; ComponentLink2Description: https://datasheet.ciiva.com/46381/607636-46381960.pdf; ComponentLink3URL: https://datasheet.ciiva.com/14162/smcj-eng-ds-14162010.pdf; ComponentLink3Description: https://datasheet.ciiva.com/14162/smcj-eng-ds-14162010.pdf; ComponentLink4URL: https://datasheet.ciiva.com/332/littelfuse-tvs-diode-smcj-datasheet-pdf-332334.pdf; ComponentLink4Description: https://datasheet.ciiva.com/332/littelfuse-tvs-diode-smcj-datasheet-pdf-332334.pdf; ComponentLink5URL: https://datasheet.ciiva.com/332/littelfuse-tvs-diode-smcj-datasheet-pdf-332335.pdf; ComponentLink5Description: https://datasheet.ciiva.com/332/littelfuse-tvs-diode-smcj-datasheet-pdf-332335.pdf; ComponentLink6URL: https://datasheet.ciiva.com/16487/littelfuse-tvs-diode-smcj-16487855.pdf; ComponentLink6Description: https://datasheet.ciiva.com/16487/littelfuse-tvs-diode-smcj-16487855.pdf; Supplier Part Number 1: SMCJ40CALFCT-ND
footprint SMC DIODE
pins: 1, 2

## Littlefuse_SMCJ43CA
designator D?  (value not drawn)
Bidirectional TVS 43V 1500W; Manufacturer: Littelfuse; Manufacturer Part Number: SMCJ43CA; Clamp Voltage: 69.4V; Number of circuits: 1; Peak pulse power: 21.7A; Polarity: Bi-Directional; Supplier 1: Digikey; Stock 1: 4027; Pricing 1: 1=0.7, 10=0.612, 25=0.542, 100=0.472, 250=0.4108, 500=0.3497, 1000=0.2797 (USD); Category: Semiconductors › Diode › TVS; Package: DO-214AB; ComponentLink1URL: https://datasheet.ciiva.com/348/littelfuse-tvs-diode-smcj-datasheet-pdf-348930.pdf; ComponentLink1Description: https://datasheet.ciiva.com/348/littelfuse-tvs-diode-smcj-datasheet-pdf-348930.pdf; ComponentLink2URL: https://datasheet.ciiva.com/348/littelfuse-tvs-diode-smcj-datasheet-pdf-348931.pdf; ComponentLink2Description: https://datasheet.ciiva.com/348/littelfuse-tvs-diode-smcj-datasheet-pdf-348931.pdf; ComponentLink3URL: https://datasheet.ciiva.com/14162/smcj-eng-ds-14162011.pdf; ComponentLink3Description: https://datasheet.ciiva.com/14162/smcj-eng-ds-14162011.pdf; ComponentLink4URL: https://datasheet.ciiva.com/4509/littelfuse-tvs-diode-smcj-62645-4509807.pdf; ComponentLink4Description: https://datasheet.ciiva.com/4509/littelfuse-tvs-diode-smcj-62645-4509807.pdf; Supplier Part Number 1: SMCJ43CALDKR-ND
footprint SMC DIODE
pins: 1, 2

## Littlefuse_SMF3.3
designator D?  (value not drawn)
Unidirectional TVS 3V 200W; Manufacturer: Littelfuse; Manufacturer Part Number: SMF3.3; Supplier 1: Digi-Key; Stock 1: 2092; Pricing 1: 1=0.59, 10=0.464, 25=0.3908, 100=0.3182, 250=0.2636, 500=0.2182, 1000=0.1636 (USD); Supplier Part Number 1: F7701CT-ND
footprint SOD-123FL_TVS
pins: 1, 2

## Littlefuse_SMF5.0A
designator D?  (value not drawn)
DIODE TVS 5VWM 9.2VC SOD123; Manufacturer: Littelfuse; Manufacturer Part Number: SMF5.0A; Number of  Elements: 1; Polarity: Uni-Directional; Reverse Breakdown Voltage: 6.4V; Clamping Voltage: 9.2V; Reverse Stand-off Voltage: 5V; Leakage Current (Max): 400uA; Peak Pulse Current: 21.7A; Peak Pulse Power Dissipation: 200W; Test Current (It): 10mA; TZOA PN: 225-00007; Supplier 1: Digikey; Stock 1: 22985; Pricing 1: 1=0.55, 10=0.39, 25=0.3204, 100=0.2564, 250=0.1865, 500=0.1515, 1000=0.1166 (USD); Package Type: SOD-123F; Operating Temperature Classification: Military; Packaging: Tape and Reel; Operating Temp Range: -55C to 150C; Mounting: Surface Mount; Pin Count: 2; ComponentLink1URL: https://datasheet.ciiva.com/6574/littelfuse-tvs-diode-smf-datasheet-pdf-6574025.pdf; ComponentLink1Description: https://datasheet.ciiva.com/6574/littelfuse-tvs-diode-smf-datasheet-pdf-6574025.pdf; ComponentLink2URL: https://datasheet.ciiva.com/6574/littelfuse-tvs-diode-smf-datasheet-pdf-6574026.pdf; ComponentLink2Description: https://datasheet.ciiva.com/6574/littelfuse-tvs-diode-smf-datasheet-pdf-6574026.pdf; ComponentLink3URL: https://datasheet.ciiva.com/6574/littelfuse-tvs-diode-smf-datasheet-pdf-6574027.pdf; ComponentLink3Description: https://datasheet.ciiva.com/6574/littelfuse-tvs-diode-smf-datasheet-pdf-6574027.pdf; Supplier Part Number 1: F5748DKR-ND
footprint SOD-123FL_TVS
pins: 1, 2

## Nexperia PMEG4005EGWJ
designator D?, comment PMEG4005EGWJ
DIODE Schottky SOD123
footprint SOD-123FL_TVS
pins: 1, 2

## ON 2N7002E
designator U?  (value not drawn)
Small Signal MOSFET; Manufacturer: ON Semiconductor; Manufacturer Part Number: 2N7002ET1G; FET Type: MOSFET N-Channel, Metal Oxide; FET Feature: Standard; Drain to Source Voltage (Vdss): 60V; Current - Continuous Drain (Id) @ 25°C: 260mA (Ta); Rds On (Max) @ Id, Vgs: 2.5 Ohm @ 240mA, 10V; Vgs(th) (Max) @ Id: 2.5V @ 250µA; Gate Charge (Qg) @ Vgs: 0.81nC @ 5V; Input Capacitance (Ciss) @ Vds: 26.7pF @ 25V; Power - Max: 300mW; ID: 1969014; Supplier 1: Digi-Key; RoHS: RoHS Compliant; Category: Discrete Semiconductor Products; Stock 1: 175541; Pricing 1: 1=0.2, 10=0.181, 100=0.0987, 500=0.06072, 1000=0.04141 (CAD); Packaging: Cut Tape (CT); Operating Temperature: -55°C ~ 150°C (TJ); Mounting Type: Surface Mount; Package / Case: TO-236-3, SC-59, SOT-23-3; Supplier Device Package: SOT-23-3 (TO-236); ComponentLink1URL: http://www.onsemi.com/pub_link/Collateral/2N7002E-D.PDF; ComponentLink1Description: http://www.onsemi.com/pub_link/Collateral/2N7002E-D.PDF; Supplier 2: Arrow; Stock 2: 257411; Pricing 2: 1=0.041, 10=0.0398, 25=0.039, 100=0.029, 250=0.0263, 500=0.0248, 1000=0.0188, 9000000=0.0179, 99000000=0.016 (USD); Package Quantity: 1; ComponentLink2URL: https://www.arrow.com/en/products/2n7002et1g/on-semiconductor/; ComponentLink2Description: https://www.arrow.com/en/products/2n7002et1g/on-semiconductor/; Supplier Part Number 1: 2N7002ET1GOSCT-ND; Supplier Part Number 2: yDS7-jFB2IfpGAOjFd9dmRHvbEmpEXaWUnrk0xTBA6g
footprint SOT-23-3
pins: 1, 2, 3

## ON CPH3216 Transistor
designator U?
TRANSISTOR 900mW 50V 1A 420MHz NPN Bipolar SOT-23-3; Manufacturer: ON Semiconductor; Manufacturer Part Number: CPH3216-TL-E; Vce Saturation (Max) @ Ib, Ic: 190mV @ 10mA, 500mA; Current - Collector Cutoff (Max): 100nA (ICBO); DC Current Gain (hFE) (Min) @ Ic, Vce: 200 @ 100mA, 2V; TZOA PN: 227-00001; Supplier 1: Digi-Key; Supplier Part Number 1: CPH3216-TL-EOSCT-ND; RoHS: RoHS Compliant; Category: Discrete Semiconductor Products; Stock: 5965; Pricing: 1=0.54, 10=0.432, 100=0.2947, 500=0.22056, 1000=0.16519 (CAD); Packaging: Cut Tape (CT); Transistor Type: NPN; Current - Collector (Ic) (Max): 1A; Voltage - Collector Emitter Breakdown (Max): 50V; Power - Max: 900mW; Frequency - Transition: 420MHz; Mounting Type: Surface Mount; Package / Case: TO-236-3, SC-59, SOT-23-3; Supplier Device Package: 3-CPH; ComponentLink1URL: http://www.onsemi.com/pub_link/Collateral/EN6405-D.PDF; ComponentLink1Description: http://www.onsemi.com/pub_link/Collateral/EN6405-D.PDF
footprint SOT-23-3
pins: 1 Base, 2 Emitter, 3 Collector

## Rohm TVS VS3V3BA1EST15R
designator D?  (value not drawn)
3.3V Standoff ESD Diode; Manufacturer: Rohm; Manufacturer Part Number: VS3V3BA1EST15R; Supplier 1: Digikey; Stock 1: 0; Pricing 1: 15000=0.0363, 30000=0.0341, 75000=0.032, 105000=0.0277 (USD); Supplier Part Number 1: VS3V3BA1EST15RTR-ND
footprint SMD0603 (0201) (0201 Footprint for ESD Diode)
pins: 1, 2

## Schurter_Fuse_1000mA
designator F?  (value not drawn)
One Time Fuse; Manufacturer: Schurter; Manufacturer Part Number: 3404.0114.11; Action: Slow; Approvals: cULus; Brand/Series: OMT 125 Series; Capacity, Breaking: 100 Amps; Class: Class T; Current, Rating: 1 A; Fuse Type: Non-Resettable; Material, Body: Thermoplastic; Standards: UL 248-14; Temperature, Ambient: -40 to +85 °C; Type: Time Lag; Voltage, AC: 125 VAC; Voltage, DC: 125 VDC; Voltage, Rating: 125 VAC/VDC; Supplier 1: Digikey; Stock 1: 744; Pricing 1: 1=0.61, 10=0.568, 20=0.528, 50=0.4752, 100=0.4488, 200=0.4224, 500=0.396, 1000=0.3696, 5000=0.3511 (USD); Dimensions: 7.4 L x 3.1 H x 2.6 W mm; Mounting: Surface Mount; Mounting Type: PCB; Package: 2-SMD, J-Lead; Primary Type: Non-Resettable; Temperature Range: 40 to 85 degC; Termination: SMD; ComponentLink1URL: https://datasheet.ciiva.com/4486/typ-omt-125-14932-4486467.pdf; ComponentLink1Description: https://datasheet.ciiva.com/4486/typ-omt-125-14932-4486467.pdf; ComponentLink2URL: https://datasheet.ciiva.com/17402/typ-omt-125-17402981.pdf; ComponentLink2Description: https://datasheet.ciiva.com/17402/typ-omt-125-17402981.pdf; ComponentLink3URL: https://datasheet.ciiva.com/26876/getdatasheetpartid-627585-26876503.pdf; ComponentLink3Description: https://datasheet.ciiva.com/26876/getdatasheetpartid-627585-26876503.pdf; ComponentLink4URL: https://datasheet.ciiva.com/1549/typ-omt-125-1549883.pdf; ComponentLink4Description: https://datasheet.ciiva.com/1549/typ-omt-125-1549883.pdf; ComponentLink5URL: https://datasheet.ciiva.com/8264/typ-omt-125-8264396.pdf; ComponentLink5Description: https://datasheet.ciiva.com/8264/typ-omt-125-8264396.pdf; Supplier Part Number 1: 486-2087-ND
footprint OMT125
pins: 1, 2

## SSM3J338R
designator M?
MOSFET P-Channel 12V 6A (Ta) 1W (Ta) SOTFL 3-Pin; Manufacturer: Toshiba; Manufacturer Part Number: SSM3J338R,LF; TZOA PN: 228-00001; FET Type: MOSFET P-Channel, Metal Oxide; FET Feature: Logic Level Gate, 1.8V Drive; Current - Continuous Drain (Id) @ 25°C: 6A (Ta); Rds On (Max) @ Id, Vgs: 17.6 mOhm @ 6A, 8V; Vgs(th) (Max) @ Id: 1V @ 1mA; Gate Charge (Qg) @ Vgs: 19.5nC @ 4.5V; Input Capacitance (Ciss) @ Vds: 1400pF @ 6V; Supplier 1: Digi-Key; Stock 1: 0; Pricing 1: 1=0.44, 10=0.347, 25=0.2924, 100=0.2379, 250=0.1972, 500=0.1632, 1000=0.1224 (USD); Category: Discrete Semiconductor Products; Family: Transistors - FETs, MOSFETs - Single; Series: -; Packaging: Cut Tape (CT); Drain to Source Voltage (Vdss): 12V; Power - Max: 1W; Operating Temperature: 150°C (TJ); Mounting Type: Surface Mount; Package / Case: SOT-23-3 Flat Leads; Supplier Device Package: SOT-23F; Supplier Part Number 1: SSM3J338RLFCT-ND
footprint SOT-23F (SOT-23.ogl)
pins: 1, 2, 3

## SSM3J_P-CH_Mosfet
designator *
pins: 1 G (power), 2 D (power), 3 S (power)

## TDK_ACM4520_Common Mode Choke
designator L?  (value not drawn)
1.5A Low Profile CMC; Manufacturer: TDK; Manufacturer Part Number: ACM4520-142-2P-TL000; TZOA PN: 213-xxxxx; Catalog Drawings: ACM Series ACM Series_Side; Filter Type: Power Line; Number of Lines: 2; Impedance @ Frequency: 1.4 kOhm @ 100MHz; DC Resistance (DCR) (Max): 80 mOhm; Voltage Rating - DC: 50V; Online Catalog: ACM Series; Other Names: 445-174420-2  ACM4520-142-2P-TL000-ND; Supplier 1: Digi-Key; Stock 1: 1841; Pricing 1: 1=1.21, 10=1.121, 100=0.8108, 500=0.621, 1000=0.552 (USD); Standard Package: 2,500; Category: Filters; Family: Common Mode Chokes; Series: ACM; Packaging: Cut Tape (CT); Inductance @ Frequency: -; Current Rating (Max): 1.5A; Voltage Rating - AC: -; Operating Temperature: -40°C ~ 85°C; Ratings: -; Approvals: -; Features: -; Mounting Type: Surface Mount; Size / Dimension: 0.185" L x 0.177" W (4.70mm x 4.50mm); Height (Max): 0.079" (2.00mm); Package / Case: Horizontal, 4 PC Pad; ComponentLink1URL: https://product.tdk.com/info/en/catalog/datasheets/cmf_commercial_power_acm4520_en.pdf; ComponentLink1Description: https://product.tdk.com/info/en/catalog/datasheets/cmf_commercial_power_acm4520_en.pdf; Supplier Part Number 1: 445-174420-1-ND
footprint ACM4520
pins: 1 (power), 2 (power), 3 (power), 4 (power)

## Toshiba_DF2B6.8AFS
designator D?  (value not drawn)
Unidirectional TVS 5V 5W; Manufacturer: Toshiba; Manufacturer Part Number: DF2B6.8AFS,L3M; Type: Steering (Rail to Rail); Bidirectional Channels: 1; Voltage - Reverse Standoff (Typ): 5V (Max); Voltage - Breakdown (Min): 5.8V; Voltage - Clamping (Max) @ Ipp: 7V (Typ); Current - Peak Pulse (10/1000µs): 1A (8/20µs); Power Line Protection: No; Capacitance @ Frequency: 9pF @ 1MHz; Supplier 1: Digikey; Stock 1: 3980; Pricing 1: 1=0.19, 10=0.178, 25=0.1624, 100=0.1168, 250=0.0688, 500=0.0571, 1000=0.0389, 2500=0.0331, 5000=0.0299 (USD); Category: Circuit Protection; Family: TVS - Diodes; Series: -; Packaging: Cut Tape (CT); Unidirectional Channels: -; Power - Peak Pulse: -; Applications: General Purpose; Operating Temperature: -; Mounting Type: Surface Mount; Package / Case: SOD-923; Supplier Device Package: fSC (SOD-923); Supplier Part Number 1: DF2B6.8AFSL3MCT-ND
footprint SOD-923
pins: 1, 2

## Toshiba_DF2S5.6FS
designator D?  (value not drawn)
Unidirectional TVS 3V 5W; Manufacturer: Toshiba; Manufacturer Part Number: DF2S5.6FS,L3M; Type: Zener; Unidirectional Channels: 1; Voltage - Reverse Standoff (Typ): 3.5V (Max); Voltage - Breakdown (Min): 5.3V; Power Line Protection: No; Capacitance @ Frequency: 40pF @ 1MHz; Supplier 1: Digikey; Stock 1: 28622; Pricing 1: 1=0.19, 10=0.178, 25=0.1624, 100=0.1168, 250=0.0688, 500=0.0571, 1000=0.0389, 2500=0.0331, 5000=0.0299 (USD); Category: Circuit Protection; Family: TVS - Diodes; Series: -; Packaging: Tape & Reel (TR); Bidirectional Channels: -; Voltage - Clamping (Max) @ Ipp: -; Current - Peak Pulse (10/1000µs): -; Power - Peak Pulse: -; Applications: General Purpose; Operating Temperature: -; Mounting Type: Surface Mount; Package / Case: SOD-923; Supplier Device Package: SOD-923; Supplier Part Number 1: DF2S5.6FSL3MDKR-ND
footprint SOD-923
pins: 1, 2

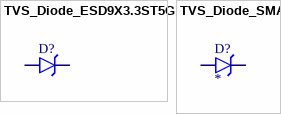
[diagram p1: symbols TVS_Diode_ESD9X3.3ST5G to TVS_Diode_SMA]

## TVS_Diode_ESD9X3.3ST5G
designator D?  (value not drawn)
Manufacturer: ON Semiconductor; Manufacturer Part Number: S2ZMMBZ18VALT1G; PCN Design/Specification: Nitride Passivation Layer 30/Sep/2015; Supplier 1: Digikey; Stock 1: 0; Pricing 1: 18000=0.0328 (USD); Standard Package: 3,000; Category: Circuit Protection; Family: TVS - Diodes; Series: -; Packaging: Tape & Reel (TR); Type: -; Unidirectional Channels: -; Bidirectional Channels: -; Voltage - Reverse Standoff (Typ): -; Voltage - Breakdown (Min): -; Voltage - Clamping (Max) @ Ipp: -; Current - Peak Pulse (10/1000µs): -; Power - Peak Pulse: -; Power Line Protection: -; Applications: -; Capacitance @ Frequency: -; Operating Temperature: -; Mounting Type: Surface Mount; Package / Case: TO-236-3, SC-59, SOT-23-3; Supplier Device Package: SOT-23; Supplier Part Number 1: S2ZMMBZ18VALT1G-ND
footprint SOD-923
pins: 1, 2

## TVS_Diode_SMA
designator D?
Supplier 1: Digi-Key; Supplier Part Number 1: SMAJ5.0A-FDICT-ND; Supplier 2: Arrow; Supplier Part Number 2: A9UW2z15WzD7zk69t2PLvyfttkKW-SLv_rUy0fJIEKU
footprint B120B (SMA Schottky Diode)
pins: 1, 2